# Altium footprint library SparkFun-Resistors.PCBLIB: 28 footprints (part 1 of 2)
Each footprint in its own frame and in the unit in brackets; x right, y up, seen from the top. Pads: shape width x height; smd on the part's side, far side on the other; paste and mask are expansions set on the pad; w line width, h text height; cw(c..) or ccw(c..) is an arc to the next point about the centre after c.
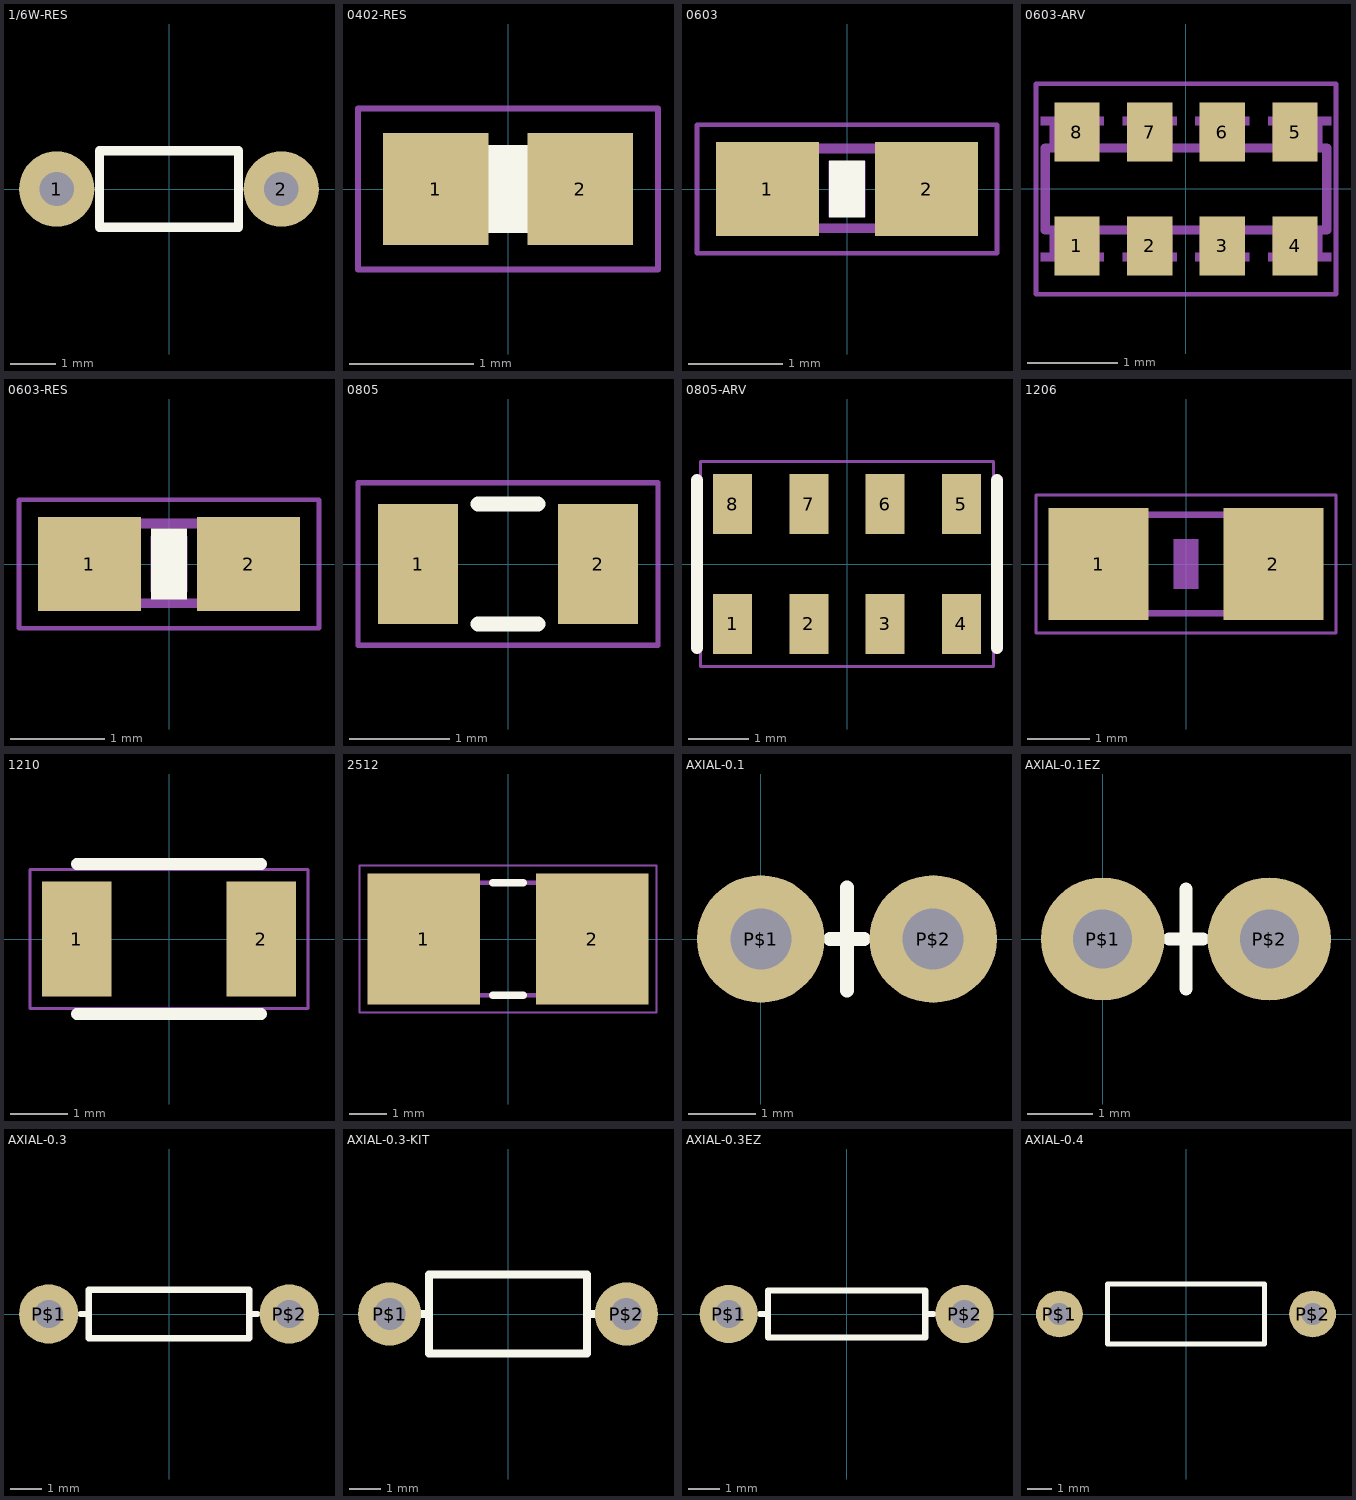
[diagram p0: the footprints below, top view; thin cyan lines are the x and y axes]

## 1/6W-RES [mil]
pads (2):
  round 66 hole 30: 1(-98.43,0) 2(98.43,0)
Top Overlay:
  lines w8: -61.02,-33.46 -61.02,33.46 61.02,33.46 61.02,-33.46 -61.02,-33.46

## 0402-RES [mil]
pads (2):
  rect 33.46x35.43 smd: 1(-22.83,0) 2(22.83,0)
Top Overlay:
  rectangle: -8,-14 8,14
Mechanical 6:
  rectangle: -7.87,-11.81 7.87,11.81
Mechanical 16:
  rectangle: -21.81,-12 -10,11.62
  rectangle: 10.19,-12 22,11.62
  lines w6: -9.65,-8.82 9.65,-8.82 ; -9.65,8.82 9.65,8.82
Mechanical 27:
  lines w2: -47.5,-25.5 47.5,-25.5 47.5,25.5 -47.5,25.5 -47.5,-25.5

## 0603 [mm]
pads (2):
  rect 1.1x1 smd: 1(-0.85,0) 2(0.85,0)
Top Overlay:
  rectangle: -0.191,-0.305 0.191,0.305
Mechanical 6:
  rectangle: -0.2,-0.3 0.2,0.3
Mechanical 16:
  rectangle: -0.838,-0.47 -0.338,0.48
  rectangle: 0.33,-0.47 0.83,0.48
  lines w0.102: -0.356,-0.419 0.356,-0.419 ; -0.356,0.432 0.356,0.432
Mechanical 27:
  lines w0.051: -1.6,-0.686 1.6,-0.686 1.6,0.686 -1.6,0.686 -1.6,-0.686

## 0603-ARV [mm]
pads (8):
  rect 0.5x0.65 smd: 1(-1.2,-0.625) 2(-0.4,-0.625) 3(0.4,-0.625) 4(1.2,-0.625) 5(1.2,0.625) 6(0.4,0.625) 7(-0.4,0.625) 8(-1.2,0.625)
Mechanical 16:
  rectangle: -1.6,0.7 -0.9,0.8
  rectangle: -0.7,0.7 -0.1,0.8
  rectangle: 0.1,0.7 0.7,0.8
  rectangle: 0.9,0.7 1.6,0.8
  rectangle: -1.5,0.5 -0.95,0.7
  rectangle: -0.65,0.5 -0.15,0.7
  rectangle: 0.15,0.5 0.65,0.7
  rectangle: 0.95,0.5 1.5,0.7
  rectangle: 0.9,-0.8 1.6,-0.7
  rectangle: 0.1,-0.8 0.7,-0.7
  rectangle: -0.7,-0.8 -0.1,-0.7
  rectangle: -1.6,-0.8 -0.9,-0.7
  rectangle: 0.95,-0.7 1.5,-0.5
  rectangle: 0.15,-0.7 0.65,-0.5
  rectangle: -0.65,-0.7 -0.15,-0.5
  rectangle: -1.5,-0.7 -0.95,-0.5
  lines w0.102: -1.55,-0.45 -1.55,0.45 1.55,0.45 1.55,-0.45 -1.55,-0.45
Mechanical 27:
  lines w0.051: -1.651,-1.158 1.651,-1.158 1.651,1.158 -1.651,1.158 -1.651,-1.158

## 0603-RES [mm]
pads (2):
  rect 1.1x1 smd: 1(-0.85,0) 2(0.85,0)
Top Overlay:
  rectangle: -0.191,-0.381 0.191,0.381
Mechanical 6:
  rectangle: -0.2,-0.3 0.2,0.3
Mechanical 16:
  rectangle: -0.838,-0.47 -0.338,0.48
  rectangle: 0.33,-0.47 0.83,0.48
  lines w0.102: -0.356,-0.419 0.356,-0.419 ; -0.356,0.432 0.356,0.432
Mechanical 27:
  lines w0.051: -1.6,-0.686 1.6,-0.686 1.6,0.686 -1.6,0.686 -1.6,-0.686

## 0805 [mil]
pads (2):
  rect 31.5x47.24 smd: 1(-35.43,0) 2(35.43,0)
Top Overlay:
  lines w6: -11.81,-23.62 11.81,-23.62 ; -11.81,23.62 11.81,23.62
Mechanical 27:
  lines w2: -59,-32 59,-32 59,32 -59,32 -59,-32

## 0805-ARV [mm]
pads (8):
  rect 0.65x1 smd: 1(-1.905,-1) 2(-0.635,-1) 3(0.635,-1) 4(1.905,-1) 5(1.905,1) 6(0.635,1) 7(-0.635,1) 8(-1.905,1)
Top Overlay:
  lines w0.203: -2.5,-1.4 -2.5,1.4 ; 2.5,-1.4 2.5,1.4
Mechanical 27:
  lines w0.051: -2.438,-1.712 2.438,-1.712 2.438,1.712 -2.438,1.712 -2.438,-1.712

## 1206 [mil]
pads (2):
  rect 62.99x70.87 smd: 1(-55.12,0) 2(55.12,0)
Mechanical 6:
  rectangle: -7.87,-15.75 7.87,15.75
Mechanical 16:
  rectangle: -67,-33.5 -37.47,33.43
  rectangle: 37.47,-33.43 67,33.5
  lines w4: -37.99,-30.98 37.99,-30.98 ; -37.99,30.98 37.99,30.98
Mechanical 27:
  lines w2: -94.5,-43.5 94.5,-43.5 94.5,43.5 -94.5,43.5 -94.5,-43.5

## 1210 [mm]
pads (2):
  rect 1.2x2 smd: 1(-1.6,0) 2(1.6,0)
Top Overlay:
  lines w0.203: -1.6,-1.3 1.6,-1.3 ; -1.6,1.3 1.6,1.3
Mechanical 27:
  lines w0.051: -2.413,-1.206 2.413,-1.206 2.413,1.206 -2.413,1.206 -2.413,-1.206

## 2512 [mm]
pads (2):
  rect 3x3.5 smd: 1(-2.25,0) 2(2.25,0)
Top Overlay:
  lines w0.203: -0.4,-1.5 0.4,-1.5 ; -0.4,1.5 0.4,1.5
Mechanical 16:
  lines w0.127: -1.245,-1.5 1.245,-1.5 ; -1.245,-1.5 -3.175,-1.5 -3.175,1.5 -1.245,1.5 ; -1.245,-1.5 -1.245,1.5 ; -1.245,1.5 1.245,1.5 ; 1.245,-1.5 3.175,-1.5 3.175,1.5 1.245,1.5 ; 1.245,-1.5 1.245,1.5
Mechanical 27:
  lines w0.051: -3.962,-1.956 3.962,-1.956 3.962,1.956 -3.962,1.956 -3.962,-1.956

## AXIAL-0.1 [mil]
pads (2):
  round 74 hole 35.43: P$1(0,0) P$2(100,0)
Top Overlay:
  lines w8: 40,0 50,0 ; 50,-30 50,0 ; 50,30 50,0 ; 60,0 50,0

## AXIAL-0.1EZ [mil]
pads (2):
  round 74 hole 35.43: P$1(0,0) P$2(100,0)
Top Overlay:
  lines w8: 40,0 50,0 ; 50,-30 50,0 ; 50,30 50,0 ; 60,0 50,0
Top Solder:
  circle w0: c0,0 r18
  circle w0: c0,0 r18
  circle w0: c100,0 r18
Bottom Solder:
  circle w0: c0,0 r40
  circle w0: c100,0 r40

## AXIAL-0.3 [mil]
pads (2):
  round 74 hole 35.43: P$1(-150,0) P$2(150,0)
Top Overlay:
  lines w8: -110,0 -100,0 ; 110,0 100,0 ; -100,0 -100,-30 100,-30 100,0 ; -100,0 -100,30 100,30 100,0

## AXIAL-0.3-KIT [mil]
pads (2):
  round 80 hole 40: P$1(-150,0) P$2(150,0)
Top Overlay:
  lines w10: -110,0 -100,0 ; 110,0 100,0 ; -100,0 -100,-50 100,-50 100,0 ; -100,0 -100,50 100,50 100,0
Top Solder:
  region: 0,0 10,0 10,10 0,10
  region: 0,0 10,0 10,10 0,10
Bottom Solder:
  region: 0,0 10,0 10,10 0,10
  region: 0,0 10,0 10,10 0,10

## AXIAL-0.3EZ [mil]
pads (2):
  round 74 hole 35.43: P$1(-150,0) P$2(150,0)
Top Overlay:
  lines w8: -110,0 -100,0 ; 110,0 100,0 ; -100,0 -100,-30 100,-30 100,0 ; -100,0 -100,30 100,30 100,0
Top Solder:
  circle w0: c-150,0 r20
  circle w0: c150,0 r20.62
Bottom Solder:
  circle w0: c-150,0 r40.31
  circle w0: c150,0 r41.23

## AXIAL-0.4 [mil]
pads (2):
  round 74 hole 35.43: P$1(-200,0) P$2(200,0)
Top Overlay:
  lines w8: -124.02,-47.24 -124.02,47.24 124.02,47.24 124.02,-47.24 -124.02,-47.24